# EAGLE library part RESISTORS_NETWORK_SIL_X9 (library passives)
SIL RESISTOR
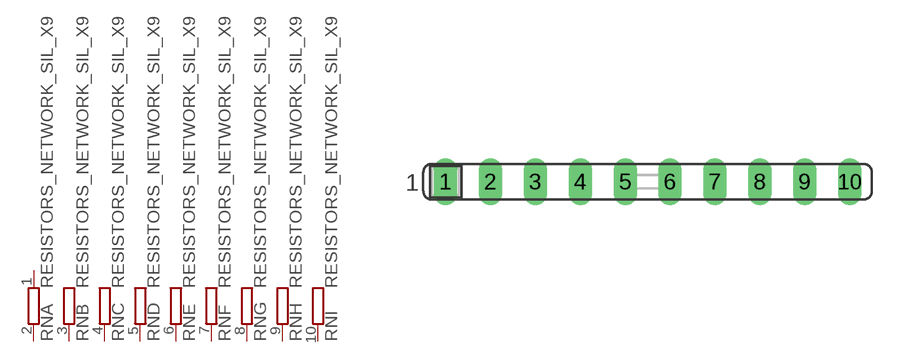
[diagram p2: symbol with the pads of RESISTORS_NETWORK_SIL_X9; footprint RESISTORS_NETWORK_SIL_X9]

Designator prefix RN; gates A=RES_NETWORK_SIL B=RES_NETWORK_SIL_1 C=RES_NETWORK_SIL_1 D=RES_NETWORK_SIL_1 E=RES_NETWORK_SIL_1 F=RES_NETWORK_SIL_1 G=RES_NETWORK_SIL_1 H=RES_NETWORK_SIL_1 I=RES_NETWORK_SIL_1

## RESISTORS_NETWORK_SIL_X9  [RESISTORS_NETWORK_SIL_X9]
1  A:1  pas
2  A:2  pas
3  B:2  pas
4  C:2  pas
5  D:2  pas
6  E:2  pas
7  F:2  pas
8  G:2  pas
9  H:2  pas
10  I:2  pas

## Footprint RESISTORS_NETWORK_SIL_X9 (pad centres in mm)
Single In Line
drill 0.813 long: 1 -11.43,0; 2 -8.89,0; 3 -6.35,0; 4 -3.81,0; 5 -1.27,0; 6 1.27,0; 7 3.81,0; 8 6.35,0; 9 8.89,0; 10 11.43,0